# Altium integrated library ABM8-272-T3.IntLib: 1 symbol
Pins are listed as number, name and electrical type; pins without a type are passive.

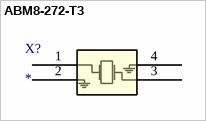
[diagram p0: symbol ABM8-272-T3]

## ABM8-272-T3
designator X?
No Description Available; Mfr_Name: Abracon; Type: Crystals; RefDes: RefDes
footprint ABM8-272-T3_ABR
pins: 1, 2, 3, 4